# Altium footprint library MyLibOLD.pcblib: 112 footprints (part 1 of 7)
Each footprint in its own frame and in the unit in brackets; x right, y up, seen from the top. Pads: shape width x height; smd on the part's side, far side on the other; paste and mask are expansions set on the pad; w line width, h text height; cw(c..) or ccw(c..) is an arc to the next point about the centre after c.
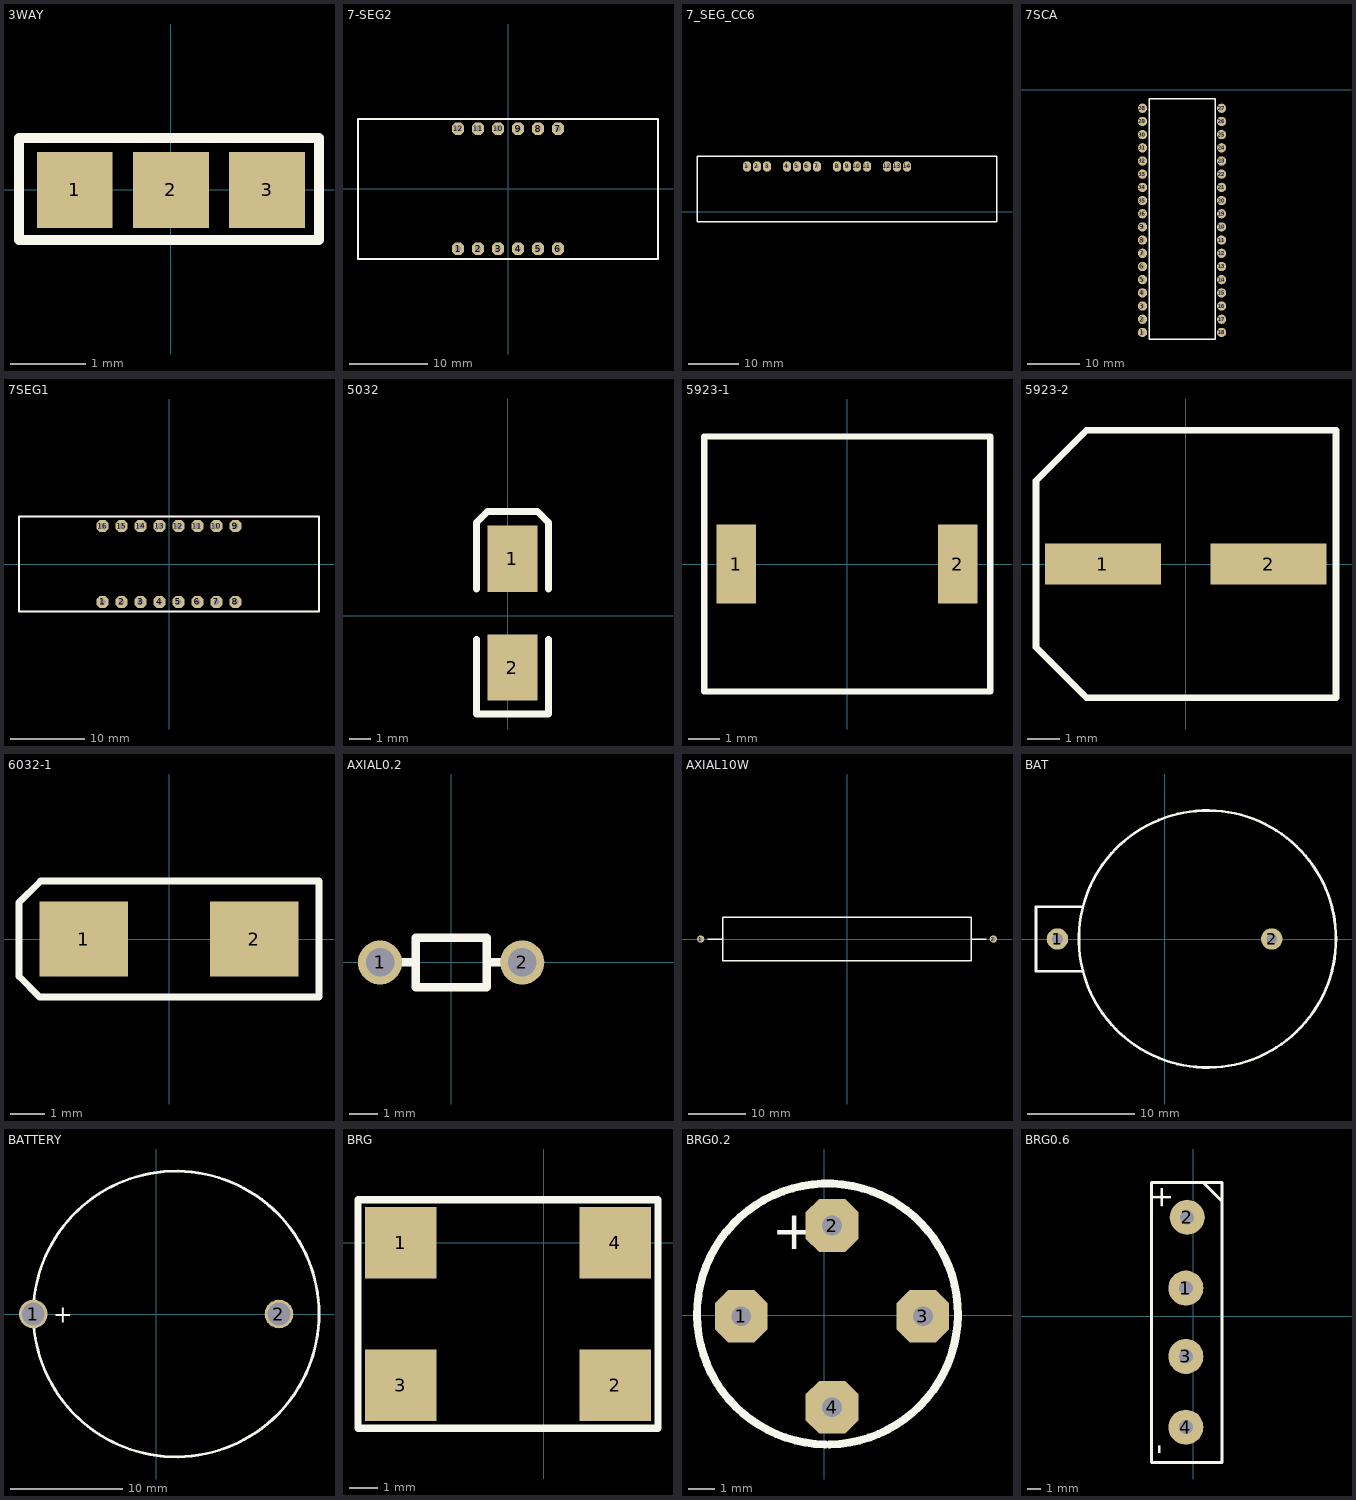
[diagram p0: the footprints below, top view; thin cyan lines are the x and y axes]

## 3WAY [mm]
pads (3):
  rect 1x1 smd: 1(-1.27,0) 2(0,0) 3(1.27,0)
TopOverlay:
  lines w0.127: -2.007,-0.66 -2.007,0.686 1.956,0.686 1.956,-0.66 -2.007,-0.66

## 7-SEG2 [mil]
pads (12):
  oct 62x62 hole 30: 1(-250,-300) 2(-150,-300) 3(-50,-300) 4(50,-300) 5(150,-300) 6(250,-300) 7(250,300) 8(150,300) 9(50,300) 10(-50,300) 11(-150,300) 12(-250,300)
TopOverlay:
  lines w10: -750,-352 750,-352 750,348 -750,348 -750,-352

## 7_SEG_CC6 [mil]
pads (14):
  oct 62x75 hole 30: 1(2125.98,354.33) 2(2204.72,354.33) 3(2283.47,354.33) 4(2440.95,354.33) 5(2519.68,354.33) 6(2598.43,354.33) 7(2677.16,354.33) 8(2834.65,354.33) 9(2913.39,354.33) 10(2992.13,354.33) 11(3070.87,354.33) 12(3228.35,354.33) 13(3307.09,354.33) 14(3385.83,354.33)
TopOverlay:
  lines w10: 1732.28,-78.74 4094.49,-78.74 4094.49,433.07 1732.28,433.07 1732.28,-78.74

## 7SCA [mil]
pads (36):
  round 70 hole 32: 1(8210,-1840) 2(8210,-1740) 3(8210,-1640) 4(8210,-1540) 5(8210,-1440) 6(8210,-1340) 7(8210,-1240) 8(8210,-1140) 9(8210,-1040) 10(8810,-1040) 11(8810,-1140) 12(8810,-1240) 13(8810,-1340) 14(8810,-1440) 15(8810,-1540) 16(8810,-1640) 17(8810,-1740) 18(8810,-1840) 19(8810,-940) 20(8810,-840) 21(8810,-740) 22(8810,-640) 23(8810,-540) 24(8810,-440) 25(8810,-340) 26(8810,-240) 27(8810,-140) 28(8210,-140) 29(8210,-240) 30(8210,-340) 31(8210,-440) 32(8210,-540) 33(8210,-640) 34(8210,-740) 35(8210,-840) 36(8210,-940)
TopOverlay:
  lines w10: 8260,-990 8260,-70 8760,-70 8760,-990 ; 8260,-690 8260,-1890 8485,-1890 ; 8440,-1890 8570,-1890 ; 8535,-1890 8760,-1890 8760,-690

## 7SEG1 [mil]
pads (16):
  oct 62x62 hole 30: 1(-350,-200) 2(-250,-200) 3(-150,-200) 4(-50,-200) 5(50,-200) 6(150,-200) 7(250,-200) 8(350,-200) 9(350,200) 10(250,200) 11(150,200) 12(50,200) 13(-50,200) 14(-150,200) 15(-250,200) 16(-350,200)
TopOverlay:
  lines w10: -790,-250 -790,250 -350,250 790,250 790,-250 -790,-250

## 5032 [mil]
pads (2):
  rect 90x120 smd: 1(8.31,103.69) 2(8.31,-93)
TopOverlay:
  lines w12: -56.69,-41.94 -56.69,-176.94 73.31,-176.94 73.31,-41.94 ; -56.69,48.69 -56.69,168.69 -36.69,188.69 53.31,188.69 73.31,168.69 73.31,48.69

## 5923-1 [mil]
pads (2):
  rect 50x100 smd: 1(-140,0) 2(140,0)
TopOverlay:
  lines w7.87: -180.87,-161.42 -180.87,161.42 181.34,161.42 181.34,-161.42 -180.87,-161.42

## 5923-2 [mil]
pads (2):
  rect 140x50 smd: 1(-100,0) 2(100,0)
TopOverlay:
  lines w7.87: -180.87,-100.55 -120,-161.42 181.34,-161.42 181.34,161.42 -120,161.42 -180.87,100.55 -180.87,-100.55

## 6032-1 [mm]
pads (2):
  rect 2.6x2.2 smd: 1(-2.5,0) 2(2.5,0)
TopOverlay:
  lines w0.2: -4.4,-1.095 -4.4,1.07 -3.821,1.649 -3.77,1.7 4.4,1.7 4.4,-1.7 -3.795,-1.7 -4.378,-1.118 -4.4,-1.095

## AXIAL0.2 [mil]
pads (2):
  round 62 hole 40: 1(-100,0) 2(100,0)
TopOverlay:
  lines w12: -90,0 -50,0 ; 50,0 90,0 ; -50,-35 50,-35 50,35 -50,35 -50,-35

## AXIAL10W [mil]
pads (2):
  round 50 hole 28: 1(-1000,0) 2(1000,0)
TopOverlay:
  lines w10: -950,0 -850,0 ; 850,0 950,0 ; -850,0 -850,150 850,150 850,-150 -850,-150 -850,0

## BAT [mm]
pads (2):
  round 2 hole 1: 1(-10,0) 2(10,0)
TopOverlay:
  circle w0.254: c4,0 r12
  lines w0.254: -7.7,3 -12,3 -12,-3 -7.6,-3

## BATTERY [mil]
pads (2):
  round 100 hole 80: 1(-430,0) 2(430,0)
TopOverlay:
  circle w10: c70,0 r500.08
  text "+" at -360,-30 h60

## BRG [mm]
pads (4):
  rect 2.54x2.54 smd: 1(-5.08,0) 2(2.54,-5.08) 3(-5.08,-5.08) 4(2.54,0)
TopOverlay:
  lines w0.254: -6.604,-6.604 4.064,-6.604 4.064,1.524 -6.604,1.524 -6.604,-6.604

## BRG0.2 [mil]
pads (4):
  oct 80x80 hole 30: 1(-126.35,-1.93) 2(11.54,135.96) 3(149.42,-1.93) 4(11.54,-139.81)
TopOverlay:
  lines w12: 1.01,-196.39 cw(c4.46,1.61) 7.92,-196.39
  text "+" at -80,100 h60

## BRG0.6 [mil]
pads (4):
  round 100 hole 40: 1(-21,81) 2(-17,283) 3(-21,-114) 4(-21,-316)
TopOverlay:
  lines w8: -119,381 -119,-417 82,-417 82,382 -119,382 ; 31,380 81,330
  text "+" at -116,375 h60
  text "-" at -119,-364 h60